# EAGLE library part OUR_RC522 (library LARS_409_MODULES)
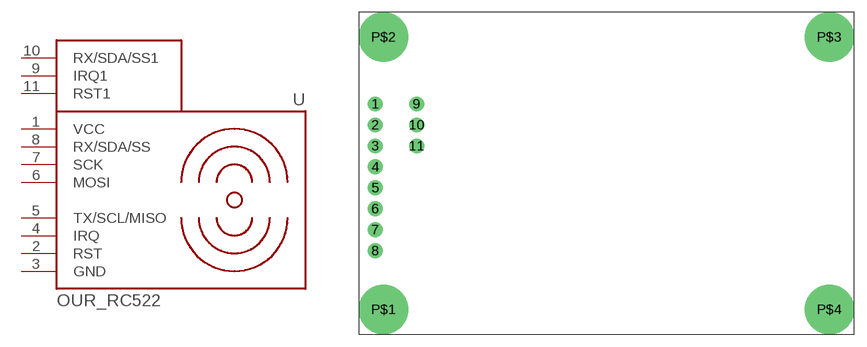
[diagram p4: symbol with the pads of OUR_RC522; footprint OUR_RC522]

Designator prefix -

## OUR_RC522  [OUR_RC522]
1  VCC
2  RST
3  GND
4  IRQ
5  TX/SCL/MISO
6  MOSI
7  SCK
8  RX/SDA/SS
9  IRQ1
10  RX/SDA/SS1
11  RST1

## Footprint OUR_RC522 (pad centres in mm)
drill 1.2: 1 2,27.9; 2 2,25.36; 3 2,22.82; 4 2,20.28; 5 2,17.74; 6 2,15.2; 7 2,12.66; 8 2,10.12; 9 7,27.9; 10 7,25.36; 11 7,22.82
drill 3 pad 6: P$1 3,3; P$2 3,36; P$3 57,36; P$4 57,3